# Altium integrated library Intersil Discrete MOSFET.IntLib: 281 symbols (part 3 of 5)
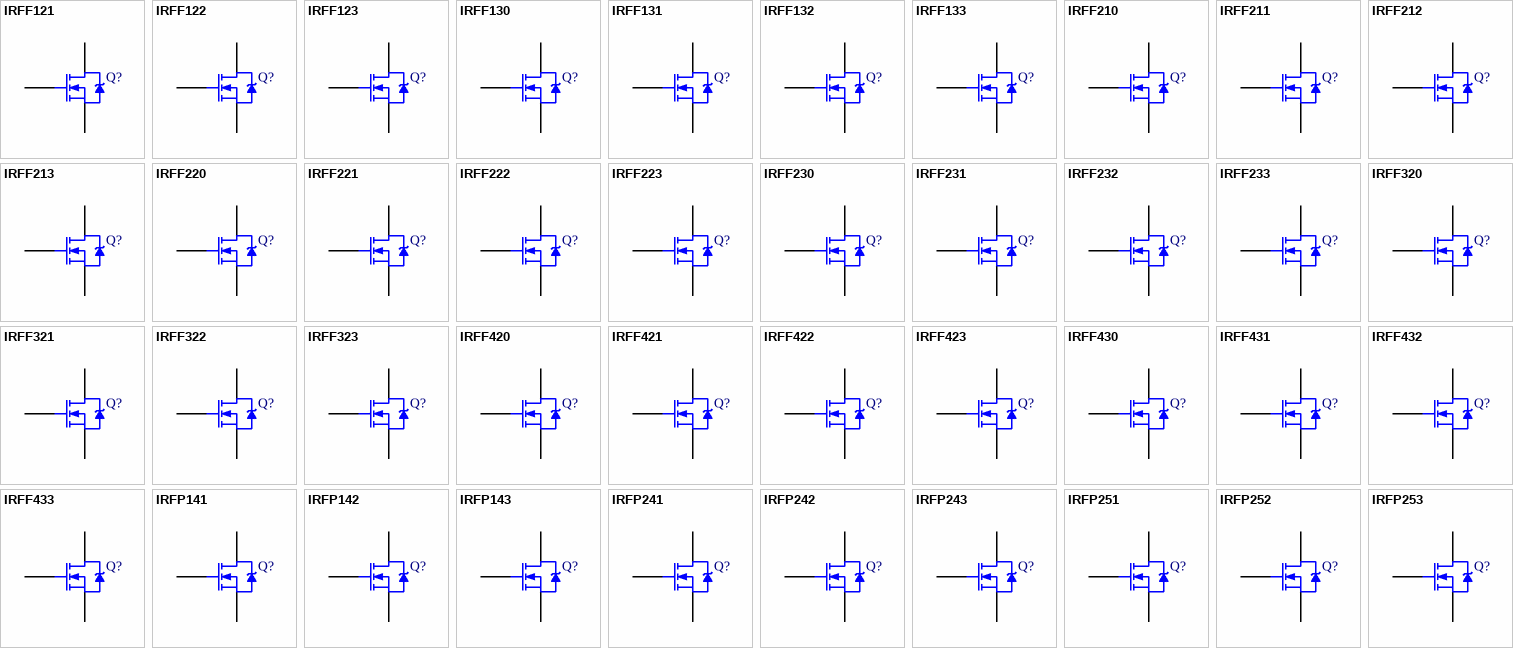
[diagram p9: symbols IRFF121 to IRFP253]

## IRFF323
designator Q?
2.0A, 350V, 2.5 Ohm, N-Channel Power MOSFET; Note: Pin 3 (drain) is connected to the case; Published: 8-Jun-2000; LatestRevisionDate: 17-Jul-2002; LatestRevisionNote: Re-released for DXP Platform.; DatasheetVersion: Jul-1998; PackageVersion: rev3, Jun-1994; PackageReference: TO-205AF; Publisher: Altium Limited; PackageDescription: Can; 3 Leads; Pin Circle Dia. 5.08 mm; Lead Dia. 0.53 mm (max); Code_JEDEC: TO-205-AF; ComponentLink1Description: Manufacturer Link; ComponentLink1URL: http://www.intersil.com/cda/home/
footprint TO-205AF (Can; 3 Leads; Pin Circle Dia. 5.08 mm; Lead Dia. 0.53 mm (max))
simulation model IRFF323 (SUBCKT)
pins: 1 S, 2 G, 3 D

## IRFF420
designator Q?
1.6A, 500V, 3.0 Ohm, N-Channel Power MOSFET; Note: Pin 3 (drain) is connected to the case; Published: 8-Jun-2000; LatestRevisionDate: 17-Jul-2002; LatestRevisionNote: Re-released for DXP Platform.; DatasheetVersion: Mar-1999; PackageVersion: rev3, Jun-1994; PackageReference: TO-205AF; Publisher: Altium Limited; PackageDescription: Can; 3 Leads; Pin Circle Dia. 5.08 mm; Lead Dia. 0.53 mm (max); Code_JEDEC: TO-205-AF; ComponentLink1Description: Manufacturer Link; ComponentLink1URL: http://www.intersil.com/cda/home/
footprint TO-205AF (Can; 3 Leads; Pin Circle Dia. 5.08 mm; Lead Dia. 0.53 mm (max))
simulation model IRFF420 (SUBCKT)
pins: 1 S, 2 G, 3 D

## IRFF421
designator Q?
1.6A, 450V, 3.0 Ohm, N-Channel Power MOSFET; Note: Pin 3 (drain) is connected to the case; Published: 8-Jun-2000; LatestRevisionDate: 17-Jul-2002; LatestRevisionNote: Re-released for DXP Platform.; DatasheetVersion: Jul-1998; PackageVersion: rev3, Jun-1994; PackageReference: TO-205AF; Publisher: Altium Limited; PackageDescription: Can; 3 Leads; Pin Circle Dia. 5.08 mm; Lead Dia. 0.53 mm (max); Code_JEDEC: TO-205-AF; ComponentLink1Description: Manufacturer Link; ComponentLink1URL: http://www.intersil.com/cda/home/
footprint TO-205AF (Can; 3 Leads; Pin Circle Dia. 5.08 mm; Lead Dia. 0.53 mm (max))
simulation model IRFF421 (SUBCKT)
pins: 1 S, 2 G, 3 D

## IRFF422
designator Q?
1.4A, 500V, 4.0 Ohm, N-Channel Power MOSFET; Note: Pin 3 (drain) is connected to the case; Published: 8-Jun-2000; LatestRevisionDate: 17-Jul-2002; LatestRevisionNote: Re-released for DXP Platform.; DatasheetVersion: Jul-1998; PackageVersion: rev3, Jun-1994; PackageReference: TO-205AF; Publisher: Altium Limited; PackageDescription: Can; 3 Leads; Pin Circle Dia. 5.08 mm; Lead Dia. 0.53 mm (max); Code_JEDEC: TO-205-AF; ComponentLink1Description: Manufacturer Link; ComponentLink1URL: http://www.intersil.com/cda/home/
footprint TO-205AF (Can; 3 Leads; Pin Circle Dia. 5.08 mm; Lead Dia. 0.53 mm (max))
simulation model IRFF422 (SUBCKT)
pins: 1 S, 2 G, 3 D

## IRFF423
designator Q?
1.4A, 450V, 4.0 Ohm, N-Channel Power MOSFET; Note: Pin 3 (drain) is connected to the case; Published: 8-Jun-2000; LatestRevisionDate: 17-Jul-2002; LatestRevisionNote: Re-released for DXP Platform.; DatasheetVersion: Jul-1998; PackageVersion: rev3, Jun-1994; PackageReference: TO-205AF; Publisher: Altium Limited; PackageDescription: Can; 3 Leads; Pin Circle Dia. 5.08 mm; Lead Dia. 0.53 mm (max); Code_JEDEC: TO-205-AF; ComponentLink1Description: Manufacturer Link; ComponentLink1URL: http://www.intersil.com/cda/home/
footprint TO-205AF (Can; 3 Leads; Pin Circle Dia. 5.08 mm; Lead Dia. 0.53 mm (max))
simulation model IRFF423 (SUBCKT)
pins: 1 S, 2 G, 3 D

## IRFF430
designator Q?
2.75A, 500V, 1.5 Ohm, N-Channel Power MOSFET; Note: Pin 3 (drain) is connected to the case; Published: 8-Jun-2000; LatestRevisionDate: 17-Jul-2002; LatestRevisionNote: Re-released for DXP Platform.; DatasheetVersion: Mar-1999; PackageVersion: rev3, Jun-1994; PackageReference: TO-205AF; Publisher: Altium Limited; PackageDescription: Can; 3 Leads; Pin Circle Dia. 5.08 mm; Lead Dia. 0.53 mm (max); Code_JEDEC: TO-205-AF; ComponentLink1Description: Manufacturer Link; ComponentLink1URL: http://www.intersil.com/cda/home/
footprint TO-205AF (Can; 3 Leads; Pin Circle Dia. 5.08 mm; Lead Dia. 0.53 mm (max))
simulation model IRFF430 (SUBCKT)
pins: 1 S, 2 G, 3 D

## IRFF431
designator Q?
2.75A, 450V, 1.5 Ohm, N-Channel Power MOSFET; Note: Pin 3 (drain) is connected to the case; Published: 8-Jun-2000; LatestRevisionDate: 17-Jul-2002; LatestRevisionNote: Re-released for DXP Platform.; DatasheetVersion: Jul-1998; PackageVersion: rev3, Jun-1994; PackageReference: TO-205AF; Publisher: Altium Limited; PackageDescription: Can; 3 Leads; Pin Circle Dia. 5.08 mm; Lead Dia. 0.53 mm (max); Code_JEDEC: TO-205-AF; ComponentLink1Description: Manufacturer Link; ComponentLink1URL: http://www.intersil.com/cda/home/
footprint TO-205AF (Can; 3 Leads; Pin Circle Dia. 5.08 mm; Lead Dia. 0.53 mm (max))
simulation model IRFF431 (SUBCKT)
pins: 1 S, 2 G, 3 D

## IRFF432
designator Q?
2.25A, 500V, 2.0 Ohm, N-Channel Power MOSFET; Note: Pin 3 (drain) is connected to the case; Published: 8-Jun-2000; LatestRevisionDate: 17-Jul-2002; LatestRevisionNote: Re-released for DXP Platform.; DatasheetVersion: Jul-1998; PackageVersion: rev3, Jun-1994; PackageReference: TO-205AF; Publisher: Altium Limited; PackageDescription: Can; 3 Leads; Pin Circle Dia. 5.08 mm; Lead Dia. 0.53 mm (max); Code_JEDEC: TO-205-AF; ComponentLink1Description: Manufacturer Link; ComponentLink1URL: http://www.intersil.com/cda/home/
footprint TO-205AF (Can; 3 Leads; Pin Circle Dia. 5.08 mm; Lead Dia. 0.53 mm (max))
simulation model IRFF432 (SUBCKT)
pins: 1 S, 2 G, 3 D

## IRFF433
designator Q?
2.25A, 450V, 2.0 Ohm, N-Channel Power MOSFET; Note: Pin 3 (drain) is connected to the case; Published: 8-Jun-2000; LatestRevisionDate: 17-Jul-2002; LatestRevisionNote: Re-released for DXP Platform.; DatasheetVersion: Jul-1998; PackageVersion: rev3, Jun-1994; PackageReference: TO-205AF; Publisher: Altium Limited; PackageDescription: Can; 3 Leads; Pin Circle Dia. 5.08 mm; Lead Dia. 0.53 mm (max); Code_JEDEC: TO-205-AF; ComponentLink1Description: Manufacturer Link; ComponentLink1URL: http://www.intersil.com/cda/home/
footprint TO-205AF (Can; 3 Leads; Pin Circle Dia. 5.08 mm; Lead Dia. 0.53 mm (max))
simulation model IRFF433 (SUBCKT)
pins: 1 S, 2 G, 3 D

## IRFP141
designator Q?
31A, 80V, 0.077 Ohm, N-Channel Power MOSFET; Note: Pin 2 (drain) is electrically connected to the case metal; Published: 8-Jun-2000; LatestRevisionDate: 17-Jul-2002; LatestRevisionNote: Re-released for DXP Platform.; DatasheetVersion: Jan-1998; PackageVersion: 1994; PackageReference: TO-247; Publisher: Altium Limited; PackageDescription: SIP with Mounting Hole; 3 Leads; Body 20.6 x 15.6 x 4.7 mm (typ); Pitch 5.56 mm; ComponentLink1Description: Manufacturer Link; ComponentLink1URL: http://www.intersil.com/cda/home/
footprint TO-247 (SIP with Mounting Hole; 3 Leads; Body 20.6 x 15.6 x 4.7 mm (typ); Pitch 5.56 mm)
simulation model IRFP141 (SUBCKT)
pins: 1 G, 2 D, 3 S

## IRFP142
designator Q?
27A, 100V, 0.099 Ohm, N-Channel Power MOSFET; Note: Pin 2 (drain) is electrically connected to the case metal; Published: 8-Jun-2000; LatestRevisionDate: 17-Jul-2002; LatestRevisionNote: Re-released for DXP Platform.; DatasheetVersion: Jan-1998; PackageVersion: 1994; PackageReference: TO-247; Publisher: Altium Limited; PackageDescription: SIP with Mounting Hole; 3 Leads; Body 20.6 x 15.6 x 4.7 mm (typ); Pitch 5.56 mm; ComponentLink1Description: Manufacturer Link; ComponentLink1URL: http://www.intersil.com/cda/home/
footprint TO-247 (SIP with Mounting Hole; 3 Leads; Body 20.6 x 15.6 x 4.7 mm (typ); Pitch 5.56 mm)
simulation model IRFP142 (SUBCKT)
pins: 1 G, 2 D, 3 S

## IRFP143
designator Q?
27A, 80V, 0.099 Ohm, N-Channel Power MOSFET; Note: Pin 2 (drain) is electrically connected to the case metal; Published: 8-Jun-2000; LatestRevisionDate: 17-Jul-2002; LatestRevisionNote: Re-released for DXP Platform.; DatasheetVersion: Jan-1998; PackageVersion: 1994; PackageReference: TO-247; Publisher: Altium Limited; PackageDescription: SIP with Mounting Hole; 3 Leads; Body 20.6 x 15.6 x 4.7 mm (typ); Pitch 5.56 mm; ComponentLink1Description: Manufacturer Link; ComponentLink1URL: http://www.intersil.com/cda/home/
footprint TO-247 (SIP with Mounting Hole; 3 Leads; Body 20.6 x 15.6 x 4.7 mm (typ); Pitch 5.56 mm)
simulation model IRFP143 (SUBCKT)
pins: 1 G, 2 D, 3 S

## IRFP241
designator Q?
20A, 150V, 0.18 Ohm, N-Channel Power MOSFET; Note: Pin 2 (drain) is electrically connected to the case metal; Published: 8-Jun-2000; LatestRevisionDate: 17-Jul-2002; LatestRevisionNote: Re-released for DXP Platform.; DatasheetVersion: Jul-1998; PackageVersion: 1994; PackageReference: TO-247; Publisher: Altium Limited; PackageDescription: SIP with Mounting Hole; 3 Leads; Body 20.6 x 15.6 x 4.7 mm (typ); Pitch 5.56 mm; ComponentLink1Description: Manufacturer Link; ComponentLink1URL: http://www.intersil.com/cda/home/
footprint TO-247 (SIP with Mounting Hole; 3 Leads; Body 20.6 x 15.6 x 4.7 mm (typ); Pitch 5.56 mm)
simulation model IRFP241 (SUBCKT)
pins: 1 G, 2 D, 3 S

## IRFP242
designator Q?
18A, 200V, 022 Ohm, N-Channel Power MOSFET; Note: Pin 2 (drain) is electrically connected to the case metal; Published: 8-Jun-2000; LatestRevisionDate: 17-Jul-2002; LatestRevisionNote: Re-released for DXP Platform.; DatasheetVersion: Jul-1998; PackageVersion: 1994; PackageReference: TO-247; Publisher: Altium Limited; PackageDescription: SIP with Mounting Hole; 3 Leads; Body 20.6 x 15.6 x 4.7 mm (typ); Pitch 5.56 mm; ComponentLink1Description: Manufacturer Link; ComponentLink1URL: http://www.intersil.com/cda/home/
footprint TO-247 (SIP with Mounting Hole; 3 Leads; Body 20.6 x 15.6 x 4.7 mm (typ); Pitch 5.56 mm)
simulation model IRFP242 (SUBCKT)
pins: 1 G, 2 D, 3 S

## IRFP243
designator Q?
18A, 150V, 0.22 Ohm, N-Channel Power MOSFET; Note: Pin 2 (drain) is electrically connected to the case metal; Published: 8-Jun-2000; LatestRevisionDate: 17-Jul-2002; LatestRevisionNote: Re-released for DXP Platform.; DatasheetVersion: Jul-1998; PackageVersion: 1994; PackageReference: TO-247; Publisher: Altium Limited; PackageDescription: SIP with Mounting Hole; 3 Leads; Body 20.6 x 15.6 x 4.7 mm (typ); Pitch 5.56 mm; ComponentLink1Description: Manufacturer Link; ComponentLink1URL: http://www.intersil.com/cda/home/
footprint TO-247 (SIP with Mounting Hole; 3 Leads; Body 20.6 x 15.6 x 4.7 mm (typ); Pitch 5.56 mm)
simulation model IRFP243 (SUBCKT)
pins: 1 G, 2 D, 3 S

## IRFP251
designator Q?
33A, 150V, 0.085 Ohm, N-Channel Power MOSFET; Note: Pin 2 (drain) is electrically connected to the case metal; Published: 8-Jun-2000; LatestRevisionDate: 17-Jul-2002; LatestRevisionNote: Re-released for DXP Platform.; DatasheetVersion: Jan-1998; PackageVersion: 1994; PackageReference: TO-247; Publisher: Altium Limited; PackageDescription: SIP with Mounting Hole; 3 Leads; Body 20.6 x 15.6 x 4.7 mm (typ); Pitch 5.56 mm; ComponentLink1Description: Manufacturer Link; ComponentLink1URL: http://www.intersil.com/cda/home/
footprint TO-247 (SIP with Mounting Hole; 3 Leads; Body 20.6 x 15.6 x 4.7 mm (typ); Pitch 5.56 mm)
simulation model IRFP251 (SUBCKT)
pins: 1 G, 2 D, 3 S

## IRFP252
designator Q?
27A, 200V, 0.12 Ohm, N-Channel Power MOSFET; Note: Pin 2 (drain) is electrically connected to the case metal; Published: 8-Jun-2000; LatestRevisionDate: 17-Jul-2002; LatestRevisionNote: Re-released for DXP Platform.; DatasheetVersion: Jan-1998; PackageVersion: 1994; PackageReference: TO-247; Publisher: Altium Limited; PackageDescription: SIP with Mounting Hole; 3 Leads; Body 20.6 x 15.6 x 4.7 mm (typ); Pitch 5.56 mm; ComponentLink1Description: Manufacturer Link; ComponentLink1URL: http://www.intersil.com/cda/home/
footprint TO-247 (SIP with Mounting Hole; 3 Leads; Body 20.6 x 15.6 x 4.7 mm (typ); Pitch 5.56 mm)
simulation model IRFP252 (SUBCKT)
pins: 1 G, 2 D, 3 S

## IRFP253
designator Q?
27A, 150V, 0.12 Ohm, N-Channel Power MOSFET; Note: Pin 2 (drain) is electrically connected to the case metal; Published: 8-Jun-2000; LatestRevisionDate: 17-Jul-2002; LatestRevisionNote: Re-released for DXP Platform.; DatasheetVersion: Jan-1998; PackageVersion: 1994; PackageReference: TO-247; Publisher: Altium Limited; PackageDescription: SIP with Mounting Hole; 3 Leads; Body 20.6 x 15.6 x 4.7 mm (typ); Pitch 5.56 mm; ComponentLink1Description: Manufacturer Link; ComponentLink1URL: http://www.intersil.com/cda/home/
footprint TO-247 (SIP with Mounting Hole; 3 Leads; Body 20.6 x 15.6 x 4.7 mm (typ); Pitch 5.56 mm)
simulation model IRFP253 (SUBCKT)
pins: 1 G, 2 D, 3 S

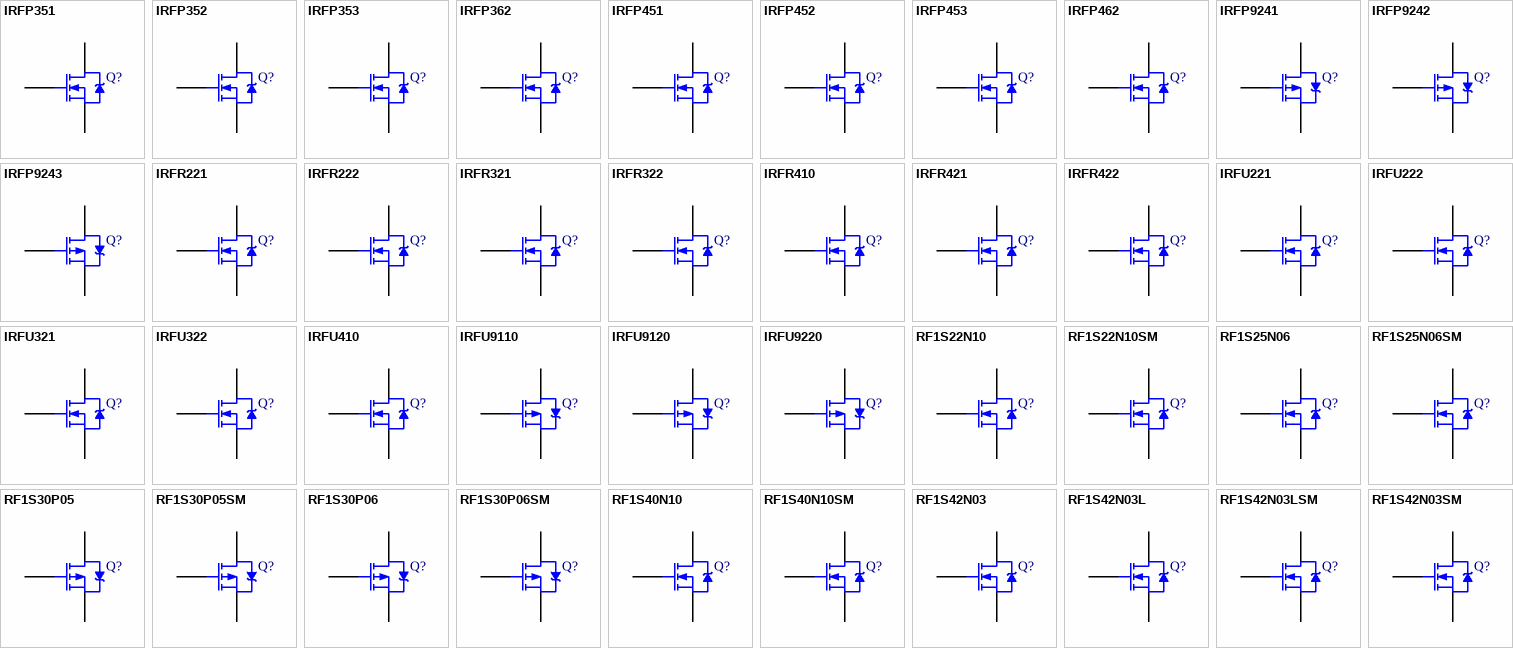
[diagram p4: symbols IRFP351 to RF1S42N03SM]

## IRFP351
designator Q?
16A, 350V, 0.3 Ohm, N-Channel Power MOSFET; Note: Pin 2 (drain) is electrically connected to the case metal; Published: 8-Jun-2000; LatestRevisionDate: 17-Jul-2002; LatestRevisionNote: Re-released for DXP Platform.; DatasheetVersion: Jan-1998; PackageVersion: 1994; PackageReference: TO-247; Publisher: Altium Limited; PackageDescription: SIP with Mounting Hole; 3 Leads; Body 20.6 x 15.6 x 4.7 mm (typ); Pitch 5.56 mm; ComponentLink1Description: Manufacturer Link; ComponentLink1URL: http://www.intersil.com/cda/home/
footprint TO-247 (SIP with Mounting Hole; 3 Leads; Body 20.6 x 15.6 x 4.7 mm (typ); Pitch 5.56 mm)
simulation model IRFP351 (SUBCKT)
pins: 1 G, 2 D, 3 S

## IRFP352
designator Q?
14A, 400V, 0.4 Ohm, N-Channel Power MOSFET; Note: Pin 2 (drain) is electrically connected to the case metal; Published: 8-Jun-2000; LatestRevisionDate: 17-Jul-2002; LatestRevisionNote: Re-released for DXP Platform.; DatasheetVersion: Jan-1998; PackageVersion: 1994; PackageReference: TO-247; Publisher: Altium Limited; PackageDescription: SIP with Mounting Hole; 3 Leads; Body 20.6 x 15.6 x 4.7 mm (typ); Pitch 5.56 mm; ComponentLink1Description: Manufacturer Link; ComponentLink1URL: http://www.intersil.com/cda/home/
footprint TO-247 (SIP with Mounting Hole; 3 Leads; Body 20.6 x 15.6 x 4.7 mm (typ); Pitch 5.56 mm)
simulation model IRFP352 (SUBCKT)
pins: 1 G, 2 D, 3 S

## IRFP353
designator Q?
14A, 350V, 0.4 Ohm, N-Channel Power MOSFET; Note: Pin 2 (drain) is electrically connected to the case metal; Published: 8-Jun-2000; LatestRevisionDate: 17-Jul-2002; LatestRevisionNote: Re-released for DXP Platform.; DatasheetVersion: Jan-1998; PackageVersion: 1994; PackageReference: TO-247; Publisher: Altium Limited; PackageDescription: SIP with Mounting Hole; 3 Leads; Body 20.6 x 15.6 x 4.7 mm (typ); Pitch 5.56 mm; ComponentLink1Description: Manufacturer Link; ComponentLink1URL: http://www.intersil.com/cda/home/
footprint TO-247 (SIP with Mounting Hole; 3 Leads; Body 20.6 x 15.6 x 4.7 mm (typ); Pitch 5.56 mm)
simulation model IRFP353 (SUBCKT)
pins: 1 G, 2 D, 3 S

## IRFP362
designator Q?
20A, 400V, 0.25 Ohm, N-Channel Power MOSFET; Note: Pin 2 (drain) is electrically connected to the case metal; Published: 8-Jun-2000; LatestRevisionDate: 17-Jul-2002; LatestRevisionNote: Re-released for DXP Platform.; DatasheetVersion: Jan-1998; PackageVersion: 1994; PackageReference: TO-247; Publisher: Altium Limited; PackageDescription: SIP with Mounting Hole; 3 Leads; Body 20.6 x 15.6 x 4.7 mm (typ); Pitch 5.56 mm; ComponentLink1Description: Manufacturer Link; ComponentLink1URL: http://www.intersil.com/cda/home/
footprint TO-247 (SIP with Mounting Hole; 3 Leads; Body 20.6 x 15.6 x 4.7 mm (typ); Pitch 5.56 mm)
simulation model IRFP362 (SUBCKT)
pins: 1 G, 2 D, 3 S

## IRFP451
designator Q?
14A, 450V, 0.4 Ohm, N-Channel Power MOSFET; Note: Pin 2 (drain) is electrically connected to the case metal; Published: 8-Jun-2000; LatestRevisionDate: 17-Jul-2002; LatestRevisionNote: Re-released for DXP Platform.; DatasheetVersion: Jan-1998; PackageVersion: 1994; PackageReference: TO-247; Publisher: Altium Limited; PackageDescription: SIP with Mounting Hole; 3 Leads; Body 20.6 x 15.6 x 4.7 mm (typ); Pitch 5.56 mm; ComponentLink1Description: Manufacturer Link; ComponentLink1URL: http://www.intersil.com/cda/home/
footprint TO-247 (SIP with Mounting Hole; 3 Leads; Body 20.6 x 15.6 x 4.7 mm (typ); Pitch 5.56 mm)
simulation model IRFP451 (SUBCKT)
pins: 1 G, 2 D, 3 S

## IRFP452
designator Q?
12A, 500V, 0.5 Ohm, N-Channel Power MOSFET; Note: Pin 2 (drain) is electrically connected to the case metal; Published: 8-Jun-2000; LatestRevisionDate: 17-Jul-2002; LatestRevisionNote: Re-released for DXP Platform.; DatasheetVersion: Jan-1998; PackageVersion: 1994; PackageReference: TO-247; Publisher: Altium Limited; PackageDescription: SIP with Mounting Hole; 3 Leads; Body 20.6 x 15.6 x 4.7 mm (typ); Pitch 5.56 mm; ComponentLink1Description: Manufacturer Link; ComponentLink1URL: http://www.intersil.com/cda/home/
footprint TO-247 (SIP with Mounting Hole; 3 Leads; Body 20.6 x 15.6 x 4.7 mm (typ); Pitch 5.56 mm)
simulation model IRFP452 (SUBCKT)
pins: 1 G, 2 D, 3 S

## IRFP453
designator Q?
12A, 450V, 0.5 Ohm, N-Channel Power MOSFET; Note: Pin 2 (drain) is electrically connected to the case metal; Published: 8-Jun-2000; LatestRevisionDate: 17-Jul-2002; LatestRevisionNote: Re-released for DXP Platform.; DatasheetVersion: Jan-1998; PackageVersion: 1994; PackageReference: TO-247; Publisher: Altium Limited; PackageDescription: SIP with Mounting Hole; 3 Leads; Body 20.6 x 15.6 x 4.7 mm (typ); Pitch 5.56 mm; ComponentLink1Description: Manufacturer Link; ComponentLink1URL: http://www.intersil.com/cda/home/
footprint TO-247 (SIP with Mounting Hole; 3 Leads; Body 20.6 x 15.6 x 4.7 mm (typ); Pitch 5.56 mm)
simulation model IRFP453 (SUBCKT)
pins: 1 G, 2 D, 3 S

## IRFP462
designator Q?
17A, 500V, 0.35 Ohm, N-Channel Power MOSFET; Note: Pin 2 (drain) is electrically connected to the case metal; Published: 8-Jun-2000; LatestRevisionDate: 17-Jul-2002; LatestRevisionNote: Re-released for DXP Platform.; DatasheetVersion: Jan-1998; PackageVersion: 1994; PackageReference: TO-247; Publisher: Altium Limited; PackageDescription: SIP with Mounting Hole; 3 Leads; Body 20.6 x 15.6 x 4.7 mm (typ); Pitch 5.56 mm; ComponentLink1Description: Manufacturer Link; ComponentLink1URL: http://www.intersil.com/cda/home/
footprint TO-247 (SIP with Mounting Hole; 3 Leads; Body 20.6 x 15.6 x 4.7 mm (typ); Pitch 5.56 mm)
simulation model IRFP462 (SUBCKT)
pins: 1 G, 2 D, 3 S

## IRFP9241
designator Q?
-12A, -150V, 0.5 Ohm, P-Channel Power MOSFET; Note: Pin 2 (drain) is electrically connected to the case metal; Published: 8-Jun-2000; LatestRevisionDate: 17-Jul-2002; LatestRevisionNote: Re-released for DXP Platform.; DatasheetVersion: Dec-1997; PackageVersion: 1994; PackageReference: TO-247; Publisher: Altium Limited; PackageDescription: SIP with Mounting Hole; 3 Leads; Body 20.6 x 15.6 x 4.7 mm (typ); Pitch 5.56 mm; ComponentLink1Description: Manufacturer Link; ComponentLink1URL: http://www.intersil.com/cda/home/
footprint TO-247 (SIP with Mounting Hole; 3 Leads; Body 20.6 x 15.6 x 4.7 mm (typ); Pitch 5.56 mm)
simulation model IRFP9241 (SUBCKT)
pins: 1 G, 2 D, 3 S

## IRFP9242
designator Q?
-10A, -200V, 0.7 Ohm, P-Channel Power MOSFET; Note: Pin 2 (drain) is electrically connected to the case metal; Published: 8-Jun-2000; LatestRevisionDate: 17-Jul-2002; LatestRevisionNote: Re-released for DXP Platform.; DatasheetVersion: Dec-1997; PackageVersion: 1994; PackageReference: TO-247; Publisher: Altium Limited; PackageDescription: SIP with Mounting Hole; 3 Leads; Body 20.6 x 15.6 x 4.7 mm (typ); Pitch 5.56 mm; ComponentLink1Description: Manufacturer Link; ComponentLink1URL: http://www.intersil.com/cda/home/
footprint TO-247 (SIP with Mounting Hole; 3 Leads; Body 20.6 x 15.6 x 4.7 mm (typ); Pitch 5.56 mm)
simulation model IRFP9242 (SUBCKT)
pins: 1 G, 2 D, 3 S

## IRFP9243
designator Q?
-10A, -150V, 0.7 Ohm, P-Channel Power MOSFET; Note: Pin 2 (drain) is electrically connected to the case metal; Published: 8-Jun-2000; LatestRevisionDate: 17-Jul-2002; LatestRevisionNote: VTO made negative; Re-released for DXP Platform.; DatasheetVersion: Dec-1997; PackageVersion: 1994; PackageReference: TO-247; Publisher: Altium Limited; PackageDescription: SIP with Mounting Hole; 3 Leads; Body 20.6 x 15.6 x 4.7 mm (typ); Pitch 5.56 mm; ComponentLink1Description: Manufacturer Link; ComponentLink1URL: http://www.intersil.com/cda/home/
footprint TO-247 (SIP with Mounting Hole; 3 Leads; Body 20.6 x 15.6 x 4.7 mm (typ); Pitch 5.56 mm)
simulation model IRFP9243 (SUBCKT)
pins: 1 G, 2 D, 3 S

## IRFR221
designator Q?
4.6A, 150V, 0.8 Ohm, N-Channel Power MOSFET; Note: Pin 4 (flange drain) is electrically connected to the Pin 2; Pin 2 is trimmed and not drawn; Published: 8-Jun-2000; LatestRevisionDate: 29-May-2009; LatestRevisionNote: IPC-7351 Footprint Added.; DatasheetVersion: Jan-1998; PackageVersion: 1994; PackageReference: TO-252AA; Publisher: Altium Limited; PackageDescription: 3-Pin Transistor Outline Package 2.28 mm Pitch, 9.8 mm Lead Span; Code_JEDEC: TO-252-AA; ComponentLink1Description: Manufacturer Link; ComponentLink1URL: http://www.intersil.com/cda/home/
footprint TO-252AA_N (D-PAK, 4-Leads, Body 6.1x6.5mm, Pitch 2.28mm, Lead Span 9.8mm, IPC Medium Density)
footprint TO-252AA_L (D-PAK, 4-Leads, Body 6.1x6.5mm, Pitch 2.28mm, Lead Span 9.8mm, IPC High Density)
footprint TO-252AA_M (D-PAK, 4-Leads, Body 6.1x6.5mm, Pitch 2.28mm, Lead Span 9.8mm, IPC Low Density)
simulation model IRFR221 (SUBCKT)
pins: 1 G, 3 S, 4 D

## IRFR222
designator Q?
3.8A, 200V, 1.2 Ohm, N-Channel Power MOSFET; Note: Pin 4 (flange drain) is electrically connected to the Pin 2; Pin 2 is trimmed and not drawn; Published: 8-Jun-2000; LatestRevisionDate: 29-May-2009; LatestRevisionNote: IPC-7351 Footprint Added.; DatasheetVersion: Jan-1998; PackageVersion: 1994; PackageReference: TO-252AA; Publisher: Altium Limited; PackageDescription: 3-Pin Transistor Outline Package 2.28 mm Pitch, 9.8 mm Lead Span; Code_JEDEC: TO-252-AA; ComponentLink1Description: Manufacturer Link; ComponentLink1URL: http://www.intersil.com/cda/home/
footprint TO-252AA_N (D-PAK, 4-Leads, Body 6.1x6.5mm, Pitch 2.28mm, Lead Span 9.8mm, IPC Medium Density)
footprint TO-252AA_L (D-PAK, 4-Leads, Body 6.1x6.5mm, Pitch 2.28mm, Lead Span 9.8mm, IPC High Density)
footprint TO-252AA_M (D-PAK, 4-Leads, Body 6.1x6.5mm, Pitch 2.28mm, Lead Span 9.8mm, IPC Low Density)
simulation model IRFR222 (SUBCKT)
pins: 1 G, 3 S, 4 D

## IRFR321
designator Q?
3.1A, 350V, 1.8 Ohm, N-Channel Power MOSFET; Note: Pin 4 (flange drain) is electrically connected to the Pin 2; Pin 2 is trimmed and not drawn; Published: 8-Jun-2000; LatestRevisionDate: 29-May-2009; LatestRevisionNote: IPC-7351 Footprint Added.; DatasheetVersion: Jul-1998; PackageVersion: 1994; PackageReference: TO-252AA; Publisher: Altium Limited; PackageDescription: 3-Pin Transistor Outline Package 2.28 mm Pitch, 9.8 mm Lead Span; Code_JEDEC: TO-252-AA; ComponentLink1Description: Manufacturer Link; ComponentLink1URL: http://www.intersil.com/cda/home/
footprint TO-252AA_N (D-PAK, 4-Leads, Body 6.1x6.5mm, Pitch 2.28mm, Lead Span 9.8mm, IPC Medium Density)
footprint TO-252AA_L (D-PAK, 4-Leads, Body 6.1x6.5mm, Pitch 2.28mm, Lead Span 9.8mm, IPC High Density)
footprint TO-252AA_M (D-PAK, 4-Leads, Body 6.1x6.5mm, Pitch 2.28mm, Lead Span 9.8mm, IPC Low Density)
simulation model IRFR321 (SUBCKT)
pins: 1 G, 3 S, 4 D

## IRFR322
designator Q?
2.6A, 400V,  2.5 Ohm, N-Channel Power MOSFET; Note: Pin 4 (flange drain) is electrically connected to the Pin 2; Pin 2 is trimmed and not drawn; Published: 8-Jun-2000; LatestRevisionDate: 29-May-2009; LatestRevisionNote: IPC-7351 Footprint Added.; DatasheetVersion: Jul-1998; PackageVersion: 1994; PackageReference: TO-252AA; Publisher: Altium Limited; PackageDescription: 3-Pin Transistor Outline Package 2.28 mm Pitch, 9.8 mm Lead Span; Code_JEDEC: TO-252-AA; ComponentLink1Description: Manufacturer Link; ComponentLink1URL: http://www.intersil.com/cda/home/
footprint TO-252AA_N (D-PAK, 4-Leads, Body 6.1x6.5mm, Pitch 2.28mm, Lead Span 9.8mm, IPC Medium Density)
footprint TO-252AA_L (D-PAK, 4-Leads, Body 6.1x6.5mm, Pitch 2.28mm, Lead Span 9.8mm, IPC High Density)
footprint TO-252AA_M (D-PAK, 4-Leads, Body 6.1x6.5mm, Pitch 2.28mm, Lead Span 9.8mm, IPC Low Density)
simulation model IRFR322 (SUBCKT)
pins: 1 G, 3 S, 4 D

## IRFR410
designator Q?
1.5A,  500V, 7.0 Ohm,  N-Channel Power MOSFET; Note: Pin 4 (flange drain) is electrically connected to the Pin 2; Pin 2 is trimmed and not drawn; Published: 8-Jun-2000; LatestRevisionDate: 29-May-2009; LatestRevisionNote: IPC-7351 Footprint Added.; DatasheetVersion: Jan-1998; PackageVersion: 1994; PackageReference: TO-252AA; Publisher: Altium Limited; PackageDescription: 3-Pin Transistor Outline Package 2.28 mm Pitch, 9.8 mm Lead Span; Code_JEDEC: TO-252-AA; ComponentLink1Description: Manufacturer Link; ComponentLink1URL: http://www.intersil.com/cda/home/
footprint TO-252AA_N (D-PAK, 4-Leads, Body 6.1x6.5mm, Pitch 2.28mm, Lead Span 9.8mm, IPC Medium Density)
footprint TO-252AA_L (D-PAK, 4-Leads, Body 6.1x6.5mm, Pitch 2.28mm, Lead Span 9.8mm, IPC High Density)
footprint TO-252AA_M (D-PAK, 4-Leads, Body 6.1x6.5mm, Pitch 2.28mm, Lead Span 9.8mm, IPC Low Density)
simulation model IRFR410 (SUBCKT)
pins: 1 G, 3 S, 4 D

## IRFR421
designator Q?
2.5A, 450V, 3.0 Ohm, N-Channel Power  MOSFET; Note: Pin 4 (flange drain) is electrically connected to the Pin 2; Pin 2 is trimmed and not drawn; Published: 8-Jun-2000; LatestRevisionDate: 29-May-2009; LatestRevisionNote: IPC-7351 Footprint Added.; DatasheetVersion: Jul-1998; PackageVersion: 1994; PackageReference: TO-252AA; Publisher: Altium Limited; PackageDescription: 3-Pin Transistor Outline Package 2.28 mm Pitch, 9.8 mm Lead Span; Code_JEDEC: TO-252-AA; ComponentLink1Description: Manufacturer Link; ComponentLink1URL: http://www.intersil.com/cda/home/
footprint TO-252AA_N (D-PAK, 4-Leads, Body 6.1x6.5mm, Pitch 2.28mm, Lead Span 9.8mm, IPC Medium Density)
footprint TO-252AA_L (D-PAK, 4-Leads, Body 6.1x6.5mm, Pitch 2.28mm, Lead Span 9.8mm, IPC High Density)
footprint TO-252AA_M (D-PAK, 4-Leads, Body 6.1x6.5mm, Pitch 2.28mm, Lead Span 9.8mm, IPC Low Density)
simulation model IRFR421 (SUBCKT)
pins: 1 G, 3 S, 4 D

## IRFR422
designator Q?
2.2A, 500V, 4.0 Ohm, N-Channel Power  MOSFET; Note: Pin 4 (flange drain) is electrically connected to the Pin 2; Pin 2 is trimmed and not drawn; Published: 8-Jun-2000; LatestRevisionDate: 29-May-2009; LatestRevisionNote: IPC-7351 Footprint Added.; DatasheetVersion: Jul-1998; PackageVersion: 1994; PackageReference: TO-252AA; Publisher: Altium Limited; PackageDescription: 3-Pin Transistor Outline Package 2.28 mm Pitch, 9.8 mm Lead Span; Code_JEDEC: TO-252-AA; ComponentLink1Description: Manufacturer Link; ComponentLink1URL: http://www.intersil.com/cda/home/
footprint TO-252AA_N (D-PAK, 4-Leads, Body 6.1x6.5mm, Pitch 2.28mm, Lead Span 9.8mm, IPC Medium Density)
footprint TO-252AA_L (D-PAK, 4-Leads, Body 6.1x6.5mm, Pitch 2.28mm, Lead Span 9.8mm, IPC High Density)
footprint TO-252AA_M (D-PAK, 4-Leads, Body 6.1x6.5mm, Pitch 2.28mm, Lead Span 9.8mm, IPC Low Density)
simulation model IRFR422 (SUBCKT)
pins: 1 G, 3 S, 4 D

## IRFU221
designator Q?
4.6A, 150V, 0.8 Ohm, N-Channel Power MOSFET; Note: Pin 2 (drain) is electrically connected to the flange; Published: 8-Jun-2000; LatestRevisionDate: 17-Jul-2002; LatestRevisionNote: Re-released for DXP Platform.; DatasheetVersion: Jan-1998; PackageVersion: 1994; PackageReference: TO-251AA; Publisher: Altium Limited; PackageDescription: TO, Thru-Hole, Vertical, Heatsink Mounted; 3 In-Line Leads; Pitch 2.28 mm; ComponentLink1Description: Manufacturer Link; ComponentLink1URL: http://www.intersil.com/cda/home/
footprint TO-251AA (TO, Thru-Hole, Vertical, Heatsink Mounted; 3 In-Line Leads; Pitch 2.28 mm)
simulation model IRFU221 (SUBCKT)
pins: 1 G, 2 D, 3 S

## IRFU222
designator Q?
3.8A, 200V, 1.2 Ohm, N-Channel Power MOSFET; Note: Pin 2 (drain) is electrically connected to the flange; Published: 8-Jun-2000; LatestRevisionDate: 17-Jul-2002; LatestRevisionNote: Re-released for DXP Platform.; DatasheetVersion: Jan-1998; PackageVersion: 1994; PackageReference: TO-251AA; Publisher: Altium Limited; PackageDescription: TO, Thru-Hole, Vertical, Heatsink Mounted; 3 In-Line Leads; Pitch 2.28 mm; ComponentLink1Description: Manufacturer Link; ComponentLink1URL: http://www.intersil.com/cda/home/
footprint TO-251AA (TO, Thru-Hole, Vertical, Heatsink Mounted; 3 In-Line Leads; Pitch 2.28 mm)
simulation model IRFU222 (SUBCKT)
pins: 1 G, 2 D, 3 S

## IRFU321
designator Q?
3.1A, 350V, 1.8 Ohm, N-Channel Power MOSFET; Note: Pin 2 (drain) is electrically connected to the flange; Published: 8-Jun-2000; LatestRevisionDate: 17-Jul-2002; LatestRevisionNote: Re-released for DXP Platform.; DatasheetVersion: Jul-1998; PackageVersion: 1994; PackageReference: TO-251AA; Publisher: Altium Limited; PackageDescription: TO, Thru-Hole, Vertical, Heatsink Mounted; 3 In-Line Leads; Pitch 2.28 mm; ComponentLink1Description: Manufacturer Link; ComponentLink1URL: http://www.intersil.com/cda/home/
footprint TO-251AA (TO, Thru-Hole, Vertical, Heatsink Mounted; 3 In-Line Leads; Pitch 2.28 mm)
simulation model IRFU321 (SUBCKT)
pins: 1 G, 2 D, 3 S

## IRFU322
designator Q?
2.6A, 400V,  2.5 Ohm, N-Channel Power MOSFET; Note: Pin 2 (drain) is electrically connected to the flange; Published: 8-Jun-2000; LatestRevisionDate: 17-Jul-2002; LatestRevisionNote: Re-released for DXP Platform.; DatasheetVersion: Jul-1998; PackageVersion: 1994; PackageReference: TO-251AA; Publisher: Altium Limited; PackageDescription: TO, Thru-Hole, Vertical, Heatsink Mounted; 3 In-Line Leads; Pitch 2.28 mm; ComponentLink1Description: Manufacturer Link; ComponentLink1URL: http://www.intersil.com/cda/home/
footprint TO-251AA (TO, Thru-Hole, Vertical, Heatsink Mounted; 3 In-Line Leads; Pitch 2.28 mm)
simulation model IRFU322 (SUBCKT)
pins: 1 G, 2 D, 3 S

## IRFU410
designator Q?
1.5A,  500V, 7.0 Ohm,  N-Channel Power MOSFET; Note: Pin 2 (drain) is electrically connected to the flange; Published: 8-Jun-2000; LatestRevisionDate: 17-Jul-2002; LatestRevisionNote: Re-released for DXP Platform.; DatasheetVersion: Jan-1998; PackageVersion: 1994; PackageReference: TO-251AA; Publisher: Altium Limited; PackageDescription: TO, Thru-Hole, Vertical, Heatsink Mounted; 3 In-Line Leads; Pitch 2.28 mm; ComponentLink1Description: Manufacturer Link; ComponentLink1URL: http://www.intersil.com/cda/home/
footprint TO-251AA (TO, Thru-Hole, Vertical, Heatsink Mounted; 3 In-Line Leads; Pitch 2.28 mm)
simulation model IRFU410 (SUBCKT)
pins: 1 G, 2 D, 3 S

## IRFU9110
designator Q?
3.1A, 100V, 1.2 Ohm, P-Channel Power MOSFET; Note: Pin 2 (drain) is electrically connected to the flange; Published: 8-Jun-2000; LatestRevisionDate: 17-Jul-2002; LatestRevisionNote: Re-released for DXP Platform.; DatasheetVersion: Jul-1999; PackageVersion: 1994; PackageReference: TO-251AA; Publisher: Altium Limited; PackageDescription: TO, Thru-Hole, Vertical, Heatsink Mounted; 3 In-Line Leads; Pitch 2.28 mm; ComponentLink1Description: Manufacturer Link; ComponentLink1URL: http://www.intersil.com/cda/home/
footprint TO-251AA (TO, Thru-Hole, Vertical, Heatsink Mounted; 3 In-Line Leads; Pitch 2.28 mm)
simulation model IRFU9110 (SUBCKT)
pins: 1 G, 2 D, 3 S

## IRFU9120
designator Q?
5.6A, 100V, 0.6 Ohm, P-Channel Power MOSFET; Note: Pin 2 (drain) is electrically connected to the flange; Published: 8-Jun-2000; LatestRevisionDate: 17-Jul-2002; LatestRevisionNote: Re-released for DXP Platform.; DatasheetVersion: Jul-1999; PackageVersion: 1994; PackageReference: TO-251AA; Publisher: Altium Limited; PackageDescription: TO, Thru-Hole, Vertical, Heatsink Mounted; 3 In-Line Leads; Pitch 2.28 mm; ComponentLink1Description: Manufacturer Link; ComponentLink1URL: http://www.intersil.com/cda/home/
footprint TO-251AA (TO, Thru-Hole, Vertical, Heatsink Mounted; 3 In-Line Leads; Pitch 2.28 mm)
simulation model IRFU9120 (SUBCKT)
pins: 1 G, 2 D, 3 S

## IRFU9220
designator Q?
3.6A, 200V, 1.5 Ohm, P-Channel Power MOSFET; Note: Pin 2 (drain) is electrically connected to the flange; Published: 8-Jun-2000; LatestRevisionDate: 17-Jul-2002; LatestRevisionNote: Re-released for DXP Platform.; DatasheetVersion: Jul-1999; PackageVersion: 1994; PackageReference: TO-251AA; Publisher: Altium Limited; PackageDescription: TO, Thru-Hole, Vertical, Heatsink Mounted; 3 In-Line Leads; Pitch 2.28 mm; ComponentLink1Description: Manufacturer Link; ComponentLink1URL: http://www.intersil.com/cda/home/
footprint TO-251AA (TO, Thru-Hole, Vertical, Heatsink Mounted; 3 In-Line Leads; Pitch 2.28 mm)
simulation model IRFU9220 (SUBCKT)
pins: 1 G, 2 D, 3 S

## RF1S22N10
designator Q?
22A, 100V, 0.08 Ohm, N-Channel Power MOSFET; Note: Pin 2 (drain) is electrically connected to the flange; Published: 8-Jun-2000; LatestRevisionDate: 17-Jul-2002; LatestRevisionNote: Re-released for DXP Platform.; DatasheetVersion: Apr-1998; PackageVersion: 1997; PackageReference: TO-262AA; Publisher: Altium Limited; PackageDescription: TO, Thru-Hole, Vertical, Heatsink Mounted; 3 In-Line Leads; Pitch 2.54 mm; Code_JEDEC: TO-262-AA; ComponentLink1Description: Manufacturer Link; ComponentLink1URL: http://www.intersil.com/cda/home/
footprint TO-262AA (TO, Thru-Hole, Vertical, Heatsink Mounted; 3 In-Line Leads; Pitch 2.54 mm)
simulation model RF1S22N10 (SUBCKT)
pins: 1 G, 2 D, 3 S

## RF1S22N10SM
designator Q?
22A, 100V, 0.08 Ohm, N-Channel Power MOSFET; Note: Pin 4 (flange drain) is electrically connected to the Pin 2; Pin 2 is trimmed and not drawn; Published: 8-Jun-2000; LatestRevisionDate: 29-May-2009; LatestRevisionNote: IPC-7351 Footprint Added.; DatasheetVersion: Apr-1998; PackageVersion: 1999; PackageReference: TO-263AB; Publisher: Altium Limited; PackageDescription: 3-Pin Transistor Outline Package 2.54 mm Pitch, 15.2 mm Lead Span; Code_JEDEC: TO-263-AB; ComponentLink1Description: Manufacturer Link; ComponentLink1URL: http://www.intersil.com/cda/home/
footprint TO-263AB_N (D2-PAK, 4-Leads, Body 9.3x10.2mm, Pitch 2.54mm, Lead Span 15.2mm, IPC Medium Density)
footprint TO-263AB_L (D2-PAK, 4-Leads, Body 9.3x10.2mm, Pitch 2.54mm, Lead Span 15.2mm, IPC High Density)
footprint TO-263AB_M (D2-PAK, 4-Leads, Body 9.3x10.2mm, Pitch 2.54mm, Lead Span 15.2mm, IPC Low Density)
simulation model RF1S22N10SM (SUBCKT)
pins: 1 G, 3 S, 4 D

## RF1S25N06
designator Q?
25A, 60V, 0.047 Ohm, N-Channel Power MOSFET; Note: Pin 2 (drain) is electrically connected to the flange; Published: 8-Jun-2000; LatestRevisionDate: 17-Jul-2002; LatestRevisionNote: Re-released for DXP Platform.; DatasheetVersion: Oct-1997; PackageVersion: 1997; PackageReference: TO-262AA; Publisher: Altium Limited; PackageDescription: TO, Thru-Hole, Vertical, Heatsink Mounted; 3 In-Line Leads; Pitch 2.54 mm; Code_JEDEC: TO-262-AA; ComponentLink1Description: Manufacturer Link; ComponentLink1URL: http://www.intersil.com/cda/home/
footprint TO-262AA (TO, Thru-Hole, Vertical, Heatsink Mounted; 3 In-Line Leads; Pitch 2.54 mm)
simulation model RF1S25N06 (SUBCKT)
pins: 1 G, 2 D, 3 S

## RF1S25N06SM
designator Q?
25A, 60V, 0.047 Ohm, N-Channel Power MOSFET; Note: Pin 4 (flange drain) is electrically connected to the Pin 2; Pin 2 is trimmed and not drawn; Published: 8-Jun-2000; LatestRevisionDate: 29-May-2009; LatestRevisionNote: IPC-7351 Footprint Added.; DatasheetVersion: Oct-1997; PackageVersion: 1999; PackageReference: TO-263AB; Publisher: Altium Limited; PackageDescription: 3-Pin Transistor Outline Package 2.54 mm Pitch, 15.2 mm Lead Span; Code_JEDEC: TO-263-AB; ComponentLink1Description: Manufacturer Link; ComponentLink1URL: http://www.intersil.com/cda/home/
footprint TO-263AB_N (D2-PAK, 4-Leads, Body 9.3x10.2mm, Pitch 2.54mm, Lead Span 15.2mm, IPC Medium Density)
footprint TO-263AB_L (D2-PAK, 4-Leads, Body 9.3x10.2mm, Pitch 2.54mm, Lead Span 15.2mm, IPC High Density)
footprint TO-263AB_M (D2-PAK, 4-Leads, Body 9.3x10.2mm, Pitch 2.54mm, Lead Span 15.2mm, IPC Low Density)
simulation model RF1S25N06SM (SUBCKT)
pins: 1 G, 3 S, 4 D

## RF1S30P05
designator Q?
30A, 50V, 0.065 Ohm, P-Channel Power MOSFET; Note: Pin 2 (drain) is electrically connected to the flange; Published: 8-Jun-2000; LatestRevisionDate: 17-Jul-2002; LatestRevisionNote: VTO made negative; Re-released for DXP Platform.; DatasheetVersion: Sep-1998; PackageVersion: 1997; PackageReference: TO-262AA; Publisher: Altium Limited; PackageDescription: TO, Thru-Hole, Vertical, Heatsink Mounted; 3 In-Line Leads; Pitch 2.54 mm; Code_JEDEC: TO-262-AA; ComponentLink1Description: Manufacturer Link; ComponentLink1URL: http://www.intersil.com/cda/home/
footprint TO-262AA (TO, Thru-Hole, Vertical, Heatsink Mounted; 3 In-Line Leads; Pitch 2.54 mm)
simulation model RF1S30P05 (SUBCKT)
pins: 1 G, 2 D, 3 S

## RF1S30P05SM
designator Q?
30A, 50V, 0.065 Ohm, P-Channel Power MOSFET; Note: Pin 4 (flange drain) is electrically connected to the Pin 2; Pin 2 is trimmed and not drawn; Published: 8-Jun-2000; LatestRevisionDate: 29-May-2009; LatestRevisionNote: IPC-7351 Footprint Added.; DatasheetVersion: Sep-1998; PackageVersion: 1999; PackageReference: TO-263AB; Publisher: Altium Limited; PackageDescription: 3-Pin Transistor Outline Package 2.54 mm Pitch, 15.2 mm Lead Span; Code_JEDEC: TO-263-AB; ComponentLink1Description: Manufacturer Link; ComponentLink1URL: http://www.intersil.com/cda/home/
footprint TO-263AB_N (D2-PAK, 4-Leads, Body 9.3x10.2mm, Pitch 2.54mm, Lead Span 15.2mm, IPC Medium Density)
footprint TO-263AB_L (D2-PAK, 4-Leads, Body 9.3x10.2mm, Pitch 2.54mm, Lead Span 15.2mm, IPC High Density)
footprint TO-263AB_M (D2-PAK, 4-Leads, Body 9.3x10.2mm, Pitch 2.54mm, Lead Span 15.2mm, IPC Low Density)
simulation model RF1S30P05SM (SUBCKT)
pins: 1 G, 3 S, 4 D

## RF1S30P06
designator Q?
30A, 60V, 0.065 Ohm, P-Channel Power MOSFET; Note: Pin 2 (drain) is electrically connected to the flange; Published: 8-Jun-2000; LatestRevisionDate: 17-Jul-2002; LatestRevisionNote: Re-released for DXP Platform.; DatasheetVersion: Sep-1998; PackageVersion: 1997; PackageReference: TO-262AA; Publisher: Altium Limited; PackageDescription: TO, Thru-Hole, Vertical, Heatsink Mounted; 3 In-Line Leads; Pitch 2.54 mm; Code_JEDEC: TO-262-AA; ComponentLink1Description: Manufacturer Link; ComponentLink1URL: http://www.intersil.com/cda/home/
footprint TO-262AA (TO, Thru-Hole, Vertical, Heatsink Mounted; 3 In-Line Leads; Pitch 2.54 mm)
simulation model RF1S30P06 (SUBCKT)
pins: 1 G, 2 D, 3 S

## RF1S30P06SM
designator Q?
30A, 60V, 0.065 Ohm, P-Channel Power MOSFET; Note: Pin 4 (flange drain) is electrically connected to the Pin 2; Pin 2 is trimmed and not drawn; Published: 8-Jun-2000; LatestRevisionDate: 29-May-2009; LatestRevisionNote: IPC-7351 Footprint Added.; DatasheetVersion: Jul-1999; PackageVersion: 1999; PackageReference: TO-263AB; Publisher: Altium Limited; PackageDescription: 3-Pin Transistor Outline Package 2.54 mm Pitch, 15.2 mm Lead Span; Code_JEDEC: TO-263-AB; ComponentLink1Description: Manufacturer Link; ComponentLink1URL: http://www.intersil.com/cda/home/
footprint TO-263AB_N (D2-PAK, 4-Leads, Body 9.3x10.2mm, Pitch 2.54mm, Lead Span 15.2mm, IPC Medium Density)
footprint TO-263AB_L (D2-PAK, 4-Leads, Body 9.3x10.2mm, Pitch 2.54mm, Lead Span 15.2mm, IPC High Density)
footprint TO-263AB_M (D2-PAK, 4-Leads, Body 9.3x10.2mm, Pitch 2.54mm, Lead Span 15.2mm, IPC Low Density)
simulation model RF1S30P06SM (SUBCKT)
pins: 1 G, 3 S, 4 D

## RF1S40N10
designator Q?
40A, 100V, 0.04 Ohm, N-Channel Power MOSFET; Note: Pin 2 (drain) is electrically connected to the flange; Published: 8-Jun-2000; LatestRevisionDate: 17-Jul-2002; LatestRevisionNote: Re-released for DXP Platform.; DatasheetVersion: Oct-1997; PackageVersion: 1997; PackageReference: TO-262AA; Publisher: Altium Limited; PackageDescription: TO, Thru-Hole, Vertical, Heatsink Mounted; 3 In-Line Leads; Pitch 2.54 mm; Code_JEDEC: TO-262-AA; ComponentLink1Description: Manufacturer Link; ComponentLink1URL: http://www.intersil.com/cda/home/
footprint TO-262AA (TO, Thru-Hole, Vertical, Heatsink Mounted; 3 In-Line Leads; Pitch 2.54 mm)
simulation model RF1S40N10 (SUBCKT)
pins: 1 G, 2 D, 3 S

## RF1S40N10SM
designator Q?
40A, 100V, 0.04 Ohm, N-Channel Power MOSFET; Note: Pin 4 (flange drain) is electrically connected to the Pin 2; Pin 2 is trimmed and not drawn; Published: 8-Jun-2000; LatestRevisionDate: 29-May-2009; LatestRevisionNote: IPC-7351 Footprint Added.; DatasheetVersion: Oct-1997; PackageVersion: 1999; PackageReference: TO-263AB; Publisher: Altium Limited; PackageDescription: 3-Pin Transistor Outline Package 2.54 mm Pitch, 15.2 mm Lead Span; Code_JEDEC: TO-263-AB; ComponentLink1Description: Manufacturer Link; ComponentLink1URL: http://www.intersil.com/cda/home/
footprint TO-263AB_N (D2-PAK, 4-Leads, Body 9.3x10.2mm, Pitch 2.54mm, Lead Span 15.2mm, IPC Medium Density)
footprint TO-263AB_L (D2-PAK, 4-Leads, Body 9.3x10.2mm, Pitch 2.54mm, Lead Span 15.2mm, IPC High Density)
footprint TO-263AB_M (D2-PAK, 4-Leads, Body 9.3x10.2mm, Pitch 2.54mm, Lead Span 15.2mm, IPC Low Density)
simulation model RF1S40N10SM (SUBCKT)
pins: 1 G, 3 S, 4 D

## RF1S42N03
designator Q?
42A, 30V, 0.025 Ohm, N-Channel Power MOSFET; Note: Pin 2 (drain) is electrically connected to the flange; Published: 8-Jun-2000; LatestRevisionDate: 17-Jul-2002; LatestRevisionNote: Re-released for DXP Platform.; DatasheetVersion: Mar-1998; PackageVersion: 1997; PackageReference: TO-262AA; Publisher: Altium Limited; PackageDescription: TO, Thru-Hole, Vertical, Heatsink Mounted; 3 In-Line Leads; Pitch 2.54 mm; Code_JEDEC: TO-262-AA; ComponentLink1Description: Manufacturer Link; ComponentLink1URL: http://www.intersil.com/cda/home/
footprint TO-262AA (TO, Thru-Hole, Vertical, Heatsink Mounted; 3 In-Line Leads; Pitch 2.54 mm)
simulation model RF1S42N03 (SUBCKT)
pins: 1 G, 2 D, 3 S

## RF1S42N03L
designator Q?
42A, 30V, 0.025 Ohm, Logic Level, N-Channel Power MOSFET; Note: Pin 2 (drain) is electrically connected to the flange; Published: 8-Jun-2000; LatestRevisionDate: 17-Jul-2002; LatestRevisionNote: Re-released for DXP Platform.; DatasheetVersion: Sep-1998; PackageVersion: 1997; PackageReference: TO-262AA; Publisher: Altium Limited; PackageDescription: TO, Thru-Hole, Vertical, Heatsink Mounted; 3 In-Line Leads; Pitch 2.54 mm; Code_JEDEC: TO-262-AA; ComponentLink1Description: Manufacturer Link; ComponentLink1URL: http://www.intersil.com/cda/home/
footprint TO-262AA (TO, Thru-Hole, Vertical, Heatsink Mounted; 3 In-Line Leads; Pitch 2.54 mm)
simulation model RF1S42N03L (SUBCKT)
pins: 1 G, 2 D, 3 S

## RF1S42N03LSM
designator Q?
42A, 30V, 0.025 Ohm, Logic Level, N-Channel Power MOSFET; Note: Pin 4 (flange drain) is electrically connected to the Pin 2; Pin 2 is trimmed and not drawn; Published: 8-Jun-2000; LatestRevisionDate: 29-May-2009; LatestRevisionNote: IPC-7351 Footprint Added.; DatasheetVersion: Jul-1999; PackageVersion: 1999; PackageReference: TO-263AB; Publisher: Altium Limited; PackageDescription: 3-Pin Transistor Outline Package 2.54 mm Pitch, 15.2 mm Lead Span; Code_JEDEC: TO-263-AB; ComponentLink1Description: Manufacturer Link; ComponentLink1URL: http://www.intersil.com/cda/home/
footprint TO-263AB_N (D2-PAK, 4-Leads, Body 9.3x10.2mm, Pitch 2.54mm, Lead Span 15.2mm, IPC Medium Density)
footprint TO-263AB_L (D2-PAK, 4-Leads, Body 9.3x10.2mm, Pitch 2.54mm, Lead Span 15.2mm, IPC High Density)
footprint TO-263AB_M (D2-PAK, 4-Leads, Body 9.3x10.2mm, Pitch 2.54mm, Lead Span 15.2mm, IPC Low Density)
simulation model RF1S42N03LSM (SUBCKT)
pins: 1 G, 3 S, 4 D

## RF1S42N03SM
designator Q?
42A, 30V, 0.025 Ohm, N-Channel Power MOSFET; Note: Pin 4 (flange drain) is electrically connected to the Pin 2; Pin 2 is trimmed and not drawn; Published: 8-Jun-2000; LatestRevisionDate: 29-May-2009; LatestRevisionNote: IPC-7351 Footprint Added.; DatasheetVersion: Mar-1998; PackageVersion: 1999; PackageReference: TO-263AB; Publisher: Altium Limited; PackageDescription: 3-Pin Transistor Outline Package 2.54 mm Pitch, 15.2 mm Lead Span; Code_JEDEC: TO-263-AB; ComponentLink1Description: Manufacturer Link; ComponentLink1URL: http://www.intersil.com/cda/home/
footprint TO-263AB_N (D2-PAK, 4-Leads, Body 9.3x10.2mm, Pitch 2.54mm, Lead Span 15.2mm, IPC Medium Density)
footprint TO-263AB_L (D2-PAK, 4-Leads, Body 9.3x10.2mm, Pitch 2.54mm, Lead Span 15.2mm, IPC High Density)
footprint TO-263AB_M (D2-PAK, 4-Leads, Body 9.3x10.2mm, Pitch 2.54mm, Lead Span 15.2mm, IPC Low Density)
simulation model RF1S42N03SM (SUBCKT)
pins: 1 G, 3 S, 4 D

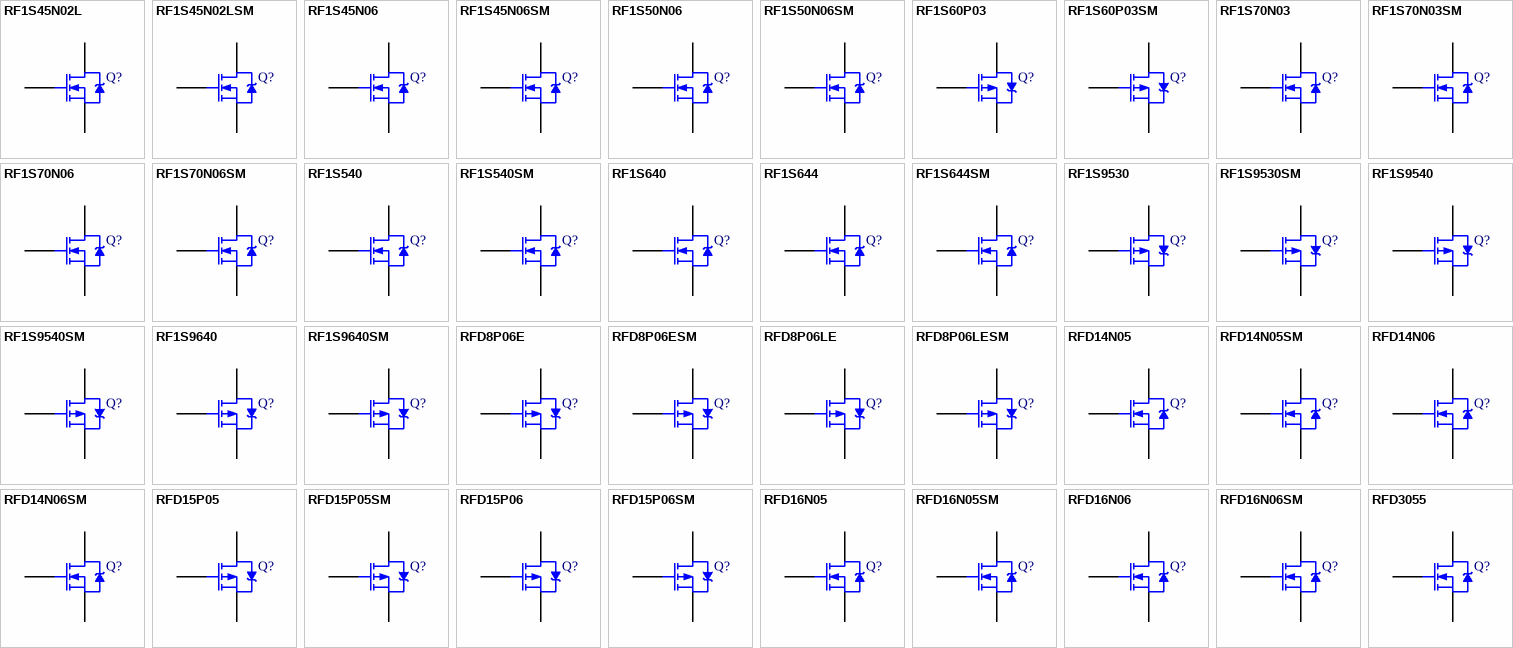
[diagram p5: symbols RF1S45N02L to RFD3055]

## RF1S45N02L
designator Q?
45A, 20V, 0.022 Ohm, N-Channel Logic Level Power MOSFET; Note: Pin 2 (drain) is electrically connected to the flange; Published: 8-Jun-2000; LatestRevisionDate: 17-Jul-2002; LatestRevisionNote: Re-released for DXP Platform.; DatasheetVersion: May-1997; PackageVersion: 1997; PackageReference: TO-262AA; Publisher: Altium Limited; PackageDescription: TO, Thru-Hole, Vertical, Heatsink Mounted; 3 In-Line Leads; Pitch 2.54 mm; Code_JEDEC: TO-262-AA; ComponentLink1Description: Manufacturer Link; ComponentLink1URL: http://www.intersil.com/cda/home/
footprint TO-262AA (TO, Thru-Hole, Vertical, Heatsink Mounted; 3 In-Line Leads; Pitch 2.54 mm)
simulation model RF1S45N02L (SUBCKT)
pins: 1 G, 2 D, 3 S

## RF1S45N02LSM
designator Q?
45A, 20V, 0.022Ohm, N-Channel Logic Level Power MOSFET; Note: Pin 4 (flange drain) is electrically connected to the Pin 2; Pin 2 is trimmed and not drawn; Published: 8-Jun-2000; LatestRevisionDate: 29-May-2009; LatestRevisionNote: IPC-7351 Footprint Added.; DatasheetVersion: May-1997; PackageVersion: 1999; PackageReference: TO-263AB; Publisher: Altium Limited; PackageDescription: 3-Pin Transistor Outline Package 2.54 mm Pitch, 15.2 mm Lead Span; Code_JEDEC: TO-263-AB; ComponentLink1Description: Manufacturer Link; ComponentLink1URL: http://www.intersil.com/cda/home/
footprint TO-263AB_N (D2-PAK, 4-Leads, Body 9.3x10.2mm, Pitch 2.54mm, Lead Span 15.2mm, IPC Medium Density)
footprint TO-263AB_L (D2-PAK, 4-Leads, Body 9.3x10.2mm, Pitch 2.54mm, Lead Span 15.2mm, IPC High Density)
footprint TO-263AB_M (D2-PAK, 4-Leads, Body 9.3x10.2mm, Pitch 2.54mm, Lead Span 15.2mm, IPC Low Density)
simulation model RF1S45N02LSM (SUBCKT)
pins: 1 G, 3 S, 4 D

## RF1S45N06
designator Q?
45A, 60V, 0.028 Ohm, N-Channel Power MOSFET; Note: Pin 2 (drain) is electrically connected to the flange; Published: 8-Jun-2000; LatestRevisionDate: 17-Jul-2002; LatestRevisionNote: Re-released for DXP Platform.; DatasheetVersion: Jul-1998; PackageVersion: 1997; PackageReference: TO-262AA; Publisher: Altium Limited; PackageDescription: TO, Thru-Hole, Vertical, Heatsink Mounted; 3 In-Line Leads; Pitch 2.54 mm; Code_JEDEC: TO-262-AA; ComponentLink1Description: Manufacturer Link; ComponentLink1URL: http://www.intersil.com/cda/home/
footprint TO-262AA (TO, Thru-Hole, Vertical, Heatsink Mounted; 3 In-Line Leads; Pitch 2.54 mm)
simulation model RF1S45N06 (SUBCKT)
pins: 1 G, 2 D, 3 S

## RF1S45N06SM
designator Q?
45A, 60V, 0.028 Ohm, N-Channel Power MOSFET; Note: Pin 4 (flange drain) is electrically connected to the Pin 2; Pin 2 is trimmed and not drawn; Published: 8-Jun-2000; LatestRevisionDate: 29-May-2009; LatestRevisionNote: IPC-7351 Footprint Added.; DatasheetVersion: Jul-1999; PackageVersion: 1999; PackageReference: TO-263AB; Publisher: Altium Limited; PackageDescription: 3-Pin Transistor Outline Package 2.54 mm Pitch, 15.2 mm Lead Span; Code_JEDEC: TO-263-AB; ComponentLink1Description: Manufacturer Link; ComponentLink1URL: http://www.intersil.com/cda/home/
footprint TO-263AB_N (D2-PAK, 4-Leads, Body 9.3x10.2mm, Pitch 2.54mm, Lead Span 15.2mm, IPC Medium Density)
footprint TO-263AB_L (D2-PAK, 4-Leads, Body 9.3x10.2mm, Pitch 2.54mm, Lead Span 15.2mm, IPC High Density)
footprint TO-263AB_M (D2-PAK, 4-Leads, Body 9.3x10.2mm, Pitch 2.54mm, Lead Span 15.2mm, IPC Low Density)
simulation model RF1S45N06SM (SUBCKT)
pins: 1 G, 3 S, 4 D

## RF1S50N06
designator Q?
50A, 60V, 0.022 Ohm, N-Channel Power MOSFET; Note: Pin 2 (drain) is electrically connected to the flange; Published: 8-Jun-2000; LatestRevisionDate: 17-Jul-2002; LatestRevisionNote: Re-released for DXP Platform.; DatasheetVersion: Oct-1997; PackageVersion: 1997; PackageReference: TO-262AA; Publisher: Altium Limited; PackageDescription: TO, Thru-Hole, Vertical, Heatsink Mounted; 3 In-Line Leads; Pitch 2.54 mm; Code_JEDEC: TO-262-AA; ComponentLink1Description: Manufacturer Link; ComponentLink1URL: http://www.intersil.com/cda/home/
footprint TO-262AA (TO, Thru-Hole, Vertical, Heatsink Mounted; 3 In-Line Leads; Pitch 2.54 mm)
simulation model RF1S50N06 (SUBCKT)
pins: 1 G, 2 D, 3 S

## RF1S50N06SM
designator Q?
50A, 60V, 0.022 Ohm, N-Channel Power MOSFET; Note: Pin 4 (flange drain) is electrically connected to the Pin 2; Pin 2 is trimmed and not drawn; Published: 8-Jun-2000; LatestRevisionDate: 29-May-2009; LatestRevisionNote: IPC-7351 Footprint Added.; DatasheetVersion: Jul-1999; PackageVersion: 1999; PackageReference: TO-263AB; Publisher: Altium Limited; PackageDescription: 3-Pin Transistor Outline Package 2.54 mm Pitch, 15.2 mm Lead Span; Code_JEDEC: TO-263-AB; ComponentLink1Description: Manufacturer Link; ComponentLink1URL: http://www.intersil.com/cda/home/
footprint TO-263AB_N (D2-PAK, 4-Leads, Body 9.3x10.2mm, Pitch 2.54mm, Lead Span 15.2mm, IPC Medium Density)
footprint TO-263AB_L (D2-PAK, 4-Leads, Body 9.3x10.2mm, Pitch 2.54mm, Lead Span 15.2mm, IPC High Density)
footprint TO-263AB_M (D2-PAK, 4-Leads, Body 9.3x10.2mm, Pitch 2.54mm, Lead Span 15.2mm, IPC Low Density)
simulation model RF1S50N06SM (SUBCKT)
pins: 1 G, 3 S, 4 D